# EAGLE library part PIC16F1827 (library IC & Transistor)
PIC16F1826/27/47
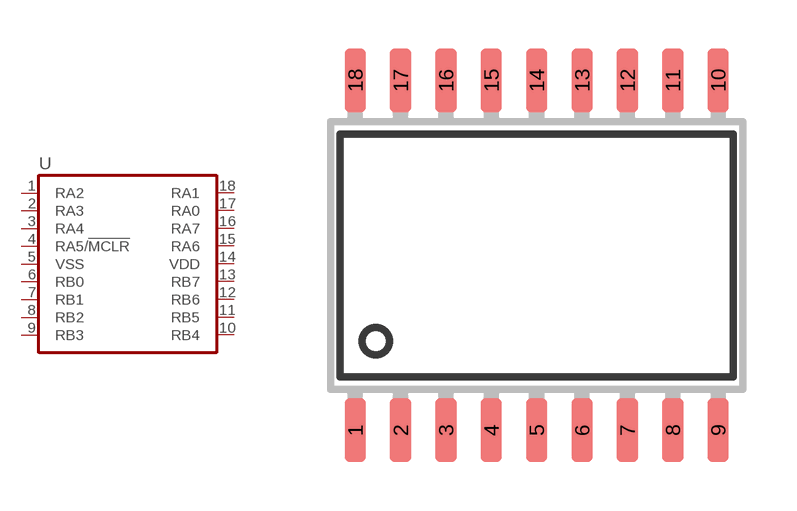
[diagram p5: symbol with the pads of SOIC-18W; footprint SOIC-18W]

Designator prefix U

## PIC16F1827_(SOIC-18W) (CYTRON-PC: S-IC-PIC16F1827-SO18; DESC: S PIC16F1827-I/SO SO18; MF: Microchip Technology; MPN: PIC16F1827-I/SO)  [SOIC-18W]
1  RA2
2  RA3
3  RA4
4  RA5/!MCLR!
5  VSS
6  RB0
7  RB1
8  RB2
9  RB3
10  RB4
11  RB5
12  RB6
13  RB7
14  VDD
15  RA6
16  RA7
17  RA0
18  RA1

## Footprint SOIC-18W (pad centres in mm)
Small Outline Integrated Circuit (SOIC) Wide (EIAJ) SOIC Package Size: 11.55 x 7.50mm Lead Pitch: 1.27mm
smd 0.6 x 1.8: 1 -5.08,-4.9; 2 -3.81,-4.9; 3 -2.54,-4.9; 4 -1.27,-4.9; 5 0,-4.9; 6 1.27,-4.9; 7 2.54,-4.9; 8 3.81,-4.9; 9 5.08,-4.9; 10 5.08,4.9; 11 3.81,4.9; 12 2.54,4.9; 13 1.27,4.9; 14 0,4.9; 15 -1.27,4.9; 16 -2.54,4.9; 17 -3.81,4.9; 18 -5.08,4.9